# Altium footprint library MSOP08-SPE-TPS54062.PcbLib: 1 footprints
Each footprint in its own frame and in the unit in brackets; x right, y up, seen from the top. Pads: shape width x height; smd on the part's side, far side on the other; paste and mask are expansions set on the pad; w line width, h text height; cw(c..) or ccw(c..) is an arc to the next point about the centre after c.
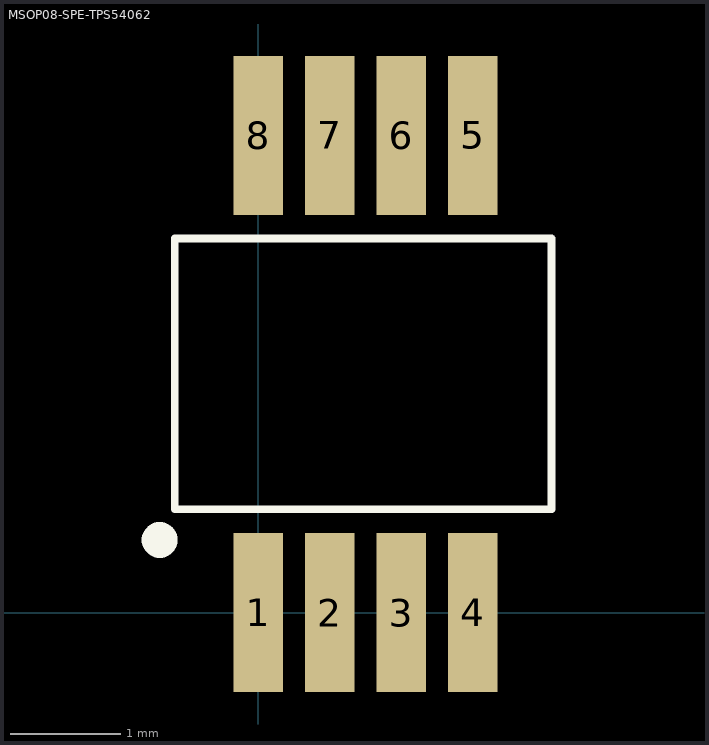
[diagram p0: the footprint, top view; thin cyan lines are the x and y axes]

## MSOP08-SPE-TPS54062 [mm]
pads (8):
  rect 0.45x1.45 smd mask+0.05: 1(0,0) 2(0.65,0) 3(1.3,0) 4(1.95,0) 5(1.95,4.341) 6(1.3,4.341) 7(0.65,4.341) 8(0,4.341)
Top Overlay:
  circle w0.254: c-0.9,0.66 r0.036
  lines w0.07: -0.762,0.94 -0.762,3.404 2.667,3.404 2.667,0.94 -0.762,0.94
3D body: height 1.15, standoff 0, extent -0.525,-0.279 2.475,4.621